# Altium footprint library CTS.PcbLib: 1 footprints
Each footprint in its own frame and in the unit in brackets; x right, y up, seen from the top. Pads: shape width x height; smd on the part's side, far side on the other; paste and mask are expansions set on the pad; w line width, h text height; cw(c..) or ccw(c..) is an arc to the next point about the centre after c.
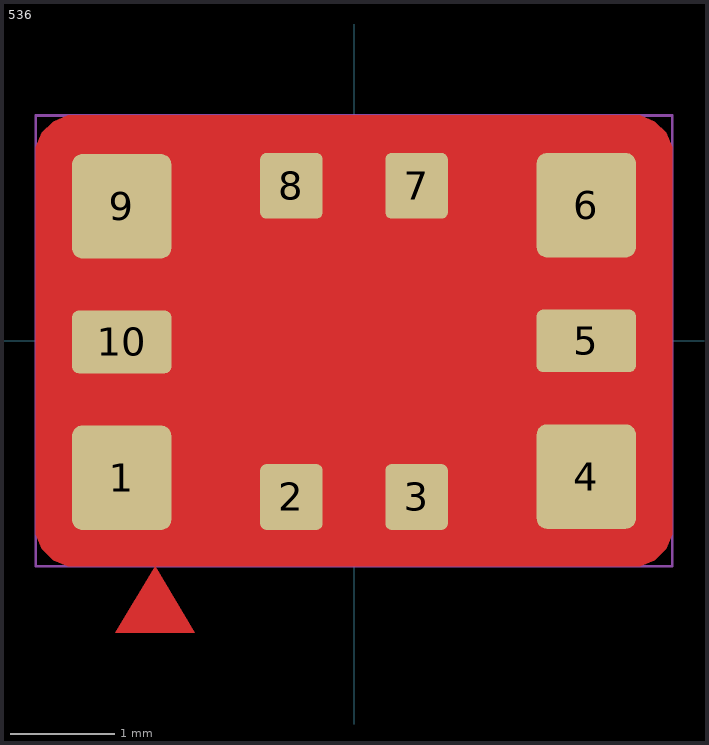
[diagram p0: the footprint, top view; thin cyan lines are the x and y axes]

## 536 [mm]
height 2
pads (10):
  rrect20% 0.95x1 smd mask+0.051: 1(-2.225,-1.311) 4(2.225,-1.3) 6(2.225,1.3) 9(-2.225,1.289)
  rrect20% 0.6x0.63 smd mask+0.051: 2(-0.6,-1.496) 3(0.6,-1.496) 7(0.6,1.485) 8(-0.6,1.485)
  rrect20% 0.95x0.6 smd mask+0.051: 5(2.225,0) 10(-2.225,-0.011)
Top Layer:
  pour cut-out: -1.27,1.143 -1.346,1.143 -1.486,1.085 -1.593,0.978 -1.651,0.838 -1.651,0.762 -1.651,-0.762 -1.651,-0.838 -1.593,-0.978 -1.486,-1.085 -1.346,-1.143 -1.27,-1.143 1.27,-1.143 1.346,-1.143 1.486,-1.085 1.593,-0.978 1.651,-0.838 1.651,-0.762 1.651,0.762 1.651,0.838 1.593,0.978 1.486,1.085 1.346,1.143 1.27,1.143
  region: -1.905,-2.159 -2.286,-2.794 -1.524,-2.794
  pour cut-out: -2.667,2.159 -2.743,2.159 -2.883,2.101 -2.99,1.994 -3.048,1.854 -3.048,1.778 -3.048,-1.778 -3.048,-1.854 -2.99,-1.994 -2.883,-2.101 -2.743,-2.159 -2.667,-2.159 2.667,-2.159 2.743,-2.159 2.883,-2.101 2.99,-1.994 3.048,-1.854 3.048,-1.778 3.048,1.778 3.048,1.854 2.99,1.994 2.883,2.101 2.743,2.159 2.667,2.159
Top Designator:
  text ".Designator" at -3.242,-0.317 h0.89
Top Courtyard:
  lines w0.025: -3.048,-2.159 -3.048,2.159 3.048,2.159 3.048,-2.159 -3.048,-2.159
Top Component Outline:
  lines w0.025: -2.7,-1.811 -1.75,-1.811 -1.75,-0.811 -2.7,-0.811 -2.7,-1.811 ; -2.7,-0.311 -1.75,-0.311 -1.75,0.289 -2.7,0.289 -2.7,-0.311 ; -2.7,0.789 -1.75,0.789 -1.75,1.789 -2.7,1.789 -2.7,0.789 ; -2.5,-1.6 2.5,-1.6 2.5,1.6 -2.5,1.6 -2.5,-1.6 ; -0.9,-1.811 -0.3,-1.811 -0.3,-1.181 -0.9,-1.181 -0.9,-1.811 ; -0.9,1.17 -0.3,1.17 -0.3,1.8 -0.9,1.8 -0.9,1.17 ; 0.3,-1.811 0.9,-1.811 0.9,-1.181 0.3,-1.181 0.3,-1.811 ; 0.3,1.17 0.9,1.17 0.9,1.8 0.3,1.8 0.3,1.17 ; 1.75,-1.8 1.75,-0.8 2.7,-0.8 2.7,-1.8 1.75,-1.8 ; 1.75,-0.3 1.75,0.3 2.7,0.3 2.7,-0.3 1.75,-0.3 ; 1.75,0.8 2.7,0.8 2.7,1.8 1.75,1.8 1.75,0.8
3D body "User Library-SG5032.step": height 1.15, standoff -0.01, extent -2.5,-1.6 2.5,1.6